# Altium schematic symbol library V_NB-IoT_3.1.SCHLIB: 97 symbols (part 2 of 2)
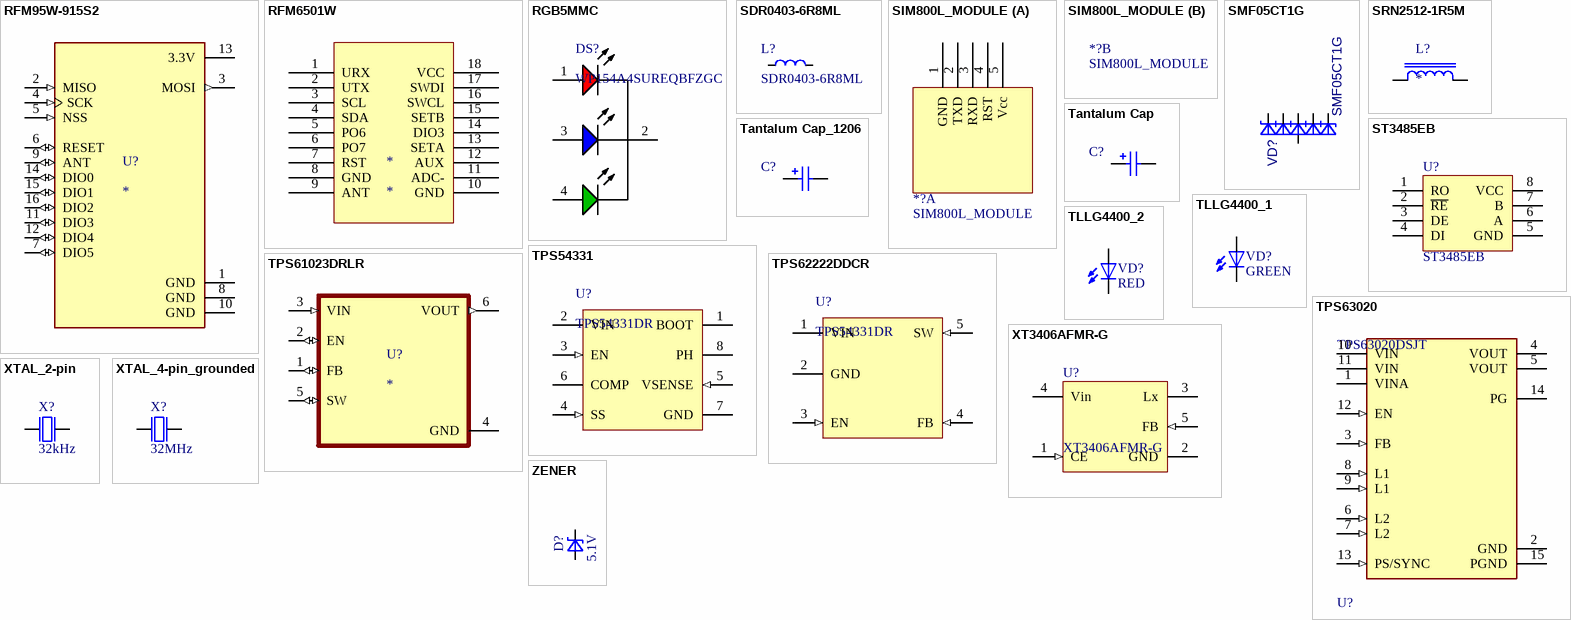
[diagram p3: symbols RFM95W-915S2 to ZENER]

## TPS62222DDCR
designator U?, comment TPS54331DR
Buck Step Down Regulator with 3.5 to 28 V Input and 0.8 to 25 V Output, -40 to 150 degC, 8-Pin SOIC (D), Green (RoHS & no Sb/Br); Manufacturer: Texas Instruments; Vin(Max)(V): 28; Duty Cycle(Max)(%): 90; Vin(Min)(V): 3.5; Iq(Typ)(mA): 0.11; SubFamily: Step-Down Regulator; Rating: Catalog; Iout(Max)(A): 3; Regulated Outputs(#): 1; Vout(Max)(V): 25; Vout(Min)(V): 0.8; Code_JEDEC: MS-012AA; DatasheetVersion: SLVS839D; ComponentLink3Description: URL Link1; Topology: Buck; ComponentLink2URL: http://www.ti.com/litv/pdf/msoi002j; Eco-Plan: Green (RoHS & no Sb/Br); ComponentLink1URL: http://www.ti.com/general/docs/lit/getliterature.tsp?genericPartNumber=TPS54331&fileType=pdf; Mounting Technology: Surface Mount; PartNumber: TPS54331DR; ComponentLink3URL: Samples URL:http://www.ti.com/product/tps54331#samples; ComponentLink1Description: Datasheet; PackageVersion: revM, Jun-2011; ComponentLink2Description: Package Specification; PackageDescription: 8-Pin Plastic Small Outline Integrated Circuit, 4.9 x 3.9 mm, Pitch 1.27 mm Pitch; Switch Current Limit(Typ)(A): 3.5; PackageReference: D0008A
footprint SOT95P280X110-5N
pins: 1 VIN (power) "Input supply voltage, 3.5 V to 28 V.", 2 GND (power) "Ground", 3 EN (in) "Enable pin. Pull below 1.25V to disable. Float to enable. Programming the input undervoltage lockout with two resistors is recommended.", 4 FB (in) "Slow start pin. An external capacitor connected to this pin sets the output rise time.", 5 SW (in) "Inverting node of the gm error amplifier."

## TPS63020
designator U?, comment TPS63020DSJT
IC REG BCK BST ADJ 3.5A 14VSON; Manufacturer: Texas Instruments; Switching Frequency: 2400kHz; Output Voltage: 1.2-5.5V; Nominal Supply Current: 25uA; Standoff Height: 0mm; Switching Topology: Buck-Boost; Min Supply Voltage: 1.8V; Output Type: AdjustableProgrammable; Max Junction Temp: +125°C; Number Of Outputs: 1; Output Current: 3A; Max Supply Voltage: 5.5V; ComponentLink2URL: https://www.ti.com/lit/ds/symlink/tps63020.pdf; Ambient Temperature Range High: +85°C; Digikey Description: IC REG BCK BST ADJ 3.5A 14VSON; Ambient Temperature Range Low: -40°C; Manufacturer Part Number: TPS63020DSJT; Automotive: No; Package: DSJ0014A; Category: IC; Temperature Range High: +85°C; Temperature: -40°C to +85°C; Octopart: https://octopart.com/tps63020dsjt-texas+instruments-12976119; Temperature Range Low: -40°C; Device Class L3: Voltage Regulators - Switching; Device Class L2: Power Management ICs; RoHS: TRUE; Lead Free: Yes; Height: 1mm; Device Class L1: Integrated Circuits (ICs); Mouser Description: Voltage Regulators - Switching Regulators 93% Eff Buck-Boost Converter; ComponentLink2Description: Datasheet
footprint VSON20
pins: 1 VINA (power), 2 GND (power), 3 FB (in), 4 VOUT (power), 5 VOUT (power), 6 L2 (in), 7 L2 (in), 8 L1 (in), 9 L1 (in), 10 VIN (power), 11 VIN (power), 12 EN (in), 13 PS/SYNC (in), 14 PG (oc), 15 PGND (power)

## XT3406AFMR-G
designator U?
Buck DCDC converter 800 mA; Manufacturer: NATLINEAR; Package: SOT-23-5; Manufacturer Part Number: XT3406AFMR-G; Note: Buck DCDC converter 800 mA
footprint SOT-23-OT5_L (SOT23, 5-Leads, Body 2.9x1.7mm, Pitch 0.95mm, Lead Span 2.8mm, IPC High Density)
pins: 1 CE (in), 2 GND (power), 3 Lx (power), 4 Vin (power), 5 FB (in)

## XTAL_2-pin
designator X?, comment 32kHz
EPSON TOYOCOM - FC-135 32.768KHZ ±20PPM,9.0PF - CRYSTAL, SM, WATCH; Part Number: FC-135 32.7680KA-A5; 2nd source part number: 127-8037; Note: XTAL SMD 32.768kHz, 3215; Artikkelnr Noca: 22019091; Manufacturer: Epson Toyocom; Manufacturer Part Number: FC-135 32.7680KA-A5; Datasheet: http://www.farnell.com/datasheets/57480.pdf; Footprint: FC-135; LatestRevisionDate: 2010-10-18; Pin Count: 2; Publisher: Nordic Semiconductor; Published: 2010-10-18; Value: 32kHz; Supplier: Digi-Key; Supplier part number: FC-135 32.7680KA-AC-ND; 2nd source Supplier: Farnell
footprint FC-135
pins: 1 inp, 2 out

## XTAL_4-pin_grounded
designator X?, comment 32MHz
XTAL SMD 2520, 32MHz, ±20ppm; Manufacturer: Abracon; Manufacturer Part Number: ABM10W-32.0000MHZ-7-D1X-T3; Datasheet: http://www.ndk.com/images/products/catalog/c_NX2520SA-STD-CSW-5_e.pdf; Footprint: BT-XTAL_2520; LatestRevisionDate: 2012-06-15; Pin Count: 4; Publisher: Nordic Semiconductor; Published: 2012-06-15; Value: 32MHz; Note: XTAL SMD 2520, 32MHz, ±20ppm; Supplier: Digi-Key; 2nd source Supplier: *; 2nd source part number: *
footprint BT-XTAL_2520
pins: 1 inp, 2 GND hidden to GND, 3 out, 4 GND hidden to GND

## ZENER
designator D?, comment 5.1V
Zener Diode 500mW 5.1V ±5% SOD-123; Manufacturer: ON; Value: MMSZ5231BT1G; Note: Zener Diode 500mW 5.1V ±5% SOD-123; Manufacturer Part Number: MMSZ5231BT1G
footprint SOD-123
pins: 1 A, 2 K